# EAGLE library part CON_HE14-6P (library IUTV3)
PIN HEADER
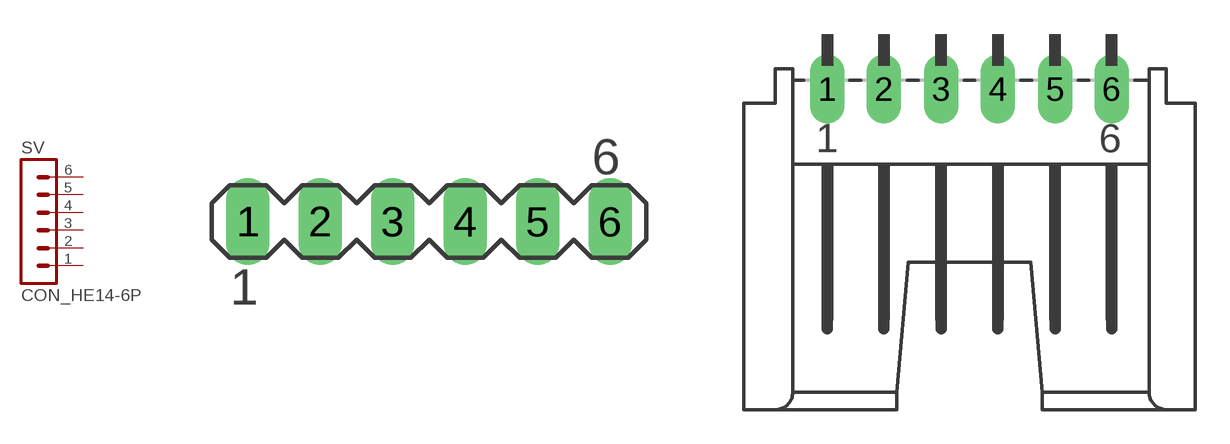
[diagram p38: symbol with the pads of MA06-1; footprints MA06-1, MSFW6]

Designator prefix SV

## CON_HE14-6P (MF: HARWIN; MOT_CLES_FARNELL: Connecteur carte-à-carte, Straight, Série M20 2.54 mm; MOT_CLES_RADIOSPARE: Embases de circuit imprimé,1 rangée; MPN: M20-9990646; OC_FARNELL: 1022255)  [MA06-1]
1  1  pas
2  2  pas
3  3  pas
4  4  pas
5  5  pas
6  6  pas

## CON_HE14-6PW (MF: TE Connectivity; MOT_CLES_FARNELL: Connecteur carte-à-carte, angle droit 2.54 mm; MOT_CLES_RADIOSPARE: Embases de circuit imprimé,angle droit 2.54 mm; MPN: 640457-6; OC_FARNELL: 588751; OC_RADIOSPARE: 535-7941)  [MSFW6]
Pads as for MA06-1

## CON_HE14-6PP (MF: TE Connectivity; MOT_CLES_FARNELL: Connecteur carte-à-carte, angle droit 2.54 mm; MOT_CLES_RADIOSPARE: Embases de circuit imprimé,angle droit 2.54 mm; MPN: 2-644861-6; OC_FARNELL: 1821903)  [S06P]
Pads as for MA06-1

## Footprint MA06-1 (pad centres in mm)
PIN HEADER
drill 1.016 long: 1 -6.35,0; 2 -3.81,0; 3 -1.27,0; 4 1.27,0; 5 3.81,0; 6 6.35,0

## Footprint MSFW6 (pad centres in mm)
MSF CONNECTOR Buerklin Nr. 56 F 582
drill 1.016 long: 1 0,1.905; 2 2.489,1.905; 3 5.004,1.905; 4 7.493,1.905; 5 10.008,1.905; 6 12.497,1.905

## Footprint S06P (pad centres in mm)
AMP MT CONNECTOR
drill 1.016 long: 1 6.25,0; 2 3.75,0; 3 1.25,0; 4 -1.25,0; 5 -3.75,0; 6 -6.25,0